# Altium footprint library potentiometers.PcbLib: 1 footprints
Each footprint in its own frame and in the unit in brackets; x right, y up, seen from the top. Pads: shape width x height; smd on the part's side, far side on the other; paste and mask are expansions set on the pad; w line width, h text height; cw(c..) or ccw(c..) is an arc to the next point about the centre after c.
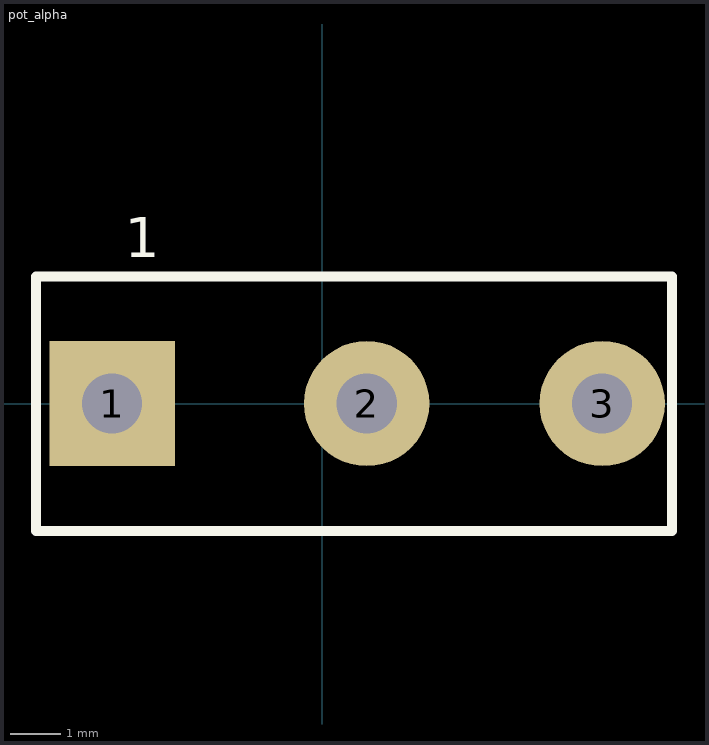
[diagram p0: the footprint, top view; thin cyan lines are the x and y axes]

## pot_alpha [mm] "Thru-Hole; 3 Leads"
pads (3):
  rect 2.5x2.5 hole 1.2: 1(-4.191,0)
  round 2.5 hole 1.2: 2(0.889,0) 3(5.588,0)
Top Overlay:
  lines w0.2: -5.715,-2.54 -5.715,2.54 6.985,2.54 6.985,-0.508 6.985,-2.54 -5.715,-2.54
  text "1" at -3.937,2.921 h0.8
3D body "pot1.STEP": height 23.5, standoff -1.55, extent -8.237,-23.517 8.763,5.483